# EAGLE library part USBLC6-2 (library Master)
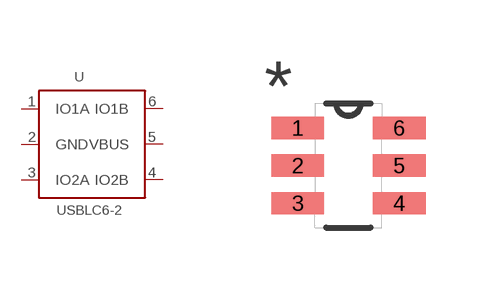
[diagram p15: symbol with the pads of SOT23-6; footprint SOT23-6]

Designator prefix -

## USBLC6-2SOT23-6  [SOT23-6]
1  IO1A
2  GND  pwr
3  IO2A
4  IO2B
5  VBUS  pwr
6  IO1B

## Footprint SOT23-6 (pad centres in mm)
smd 1.321 x 0.559: 1 -1.27,0.94; 2 -1.27,0; 3 -1.27,-0.94; 4 1.27,-0.94; 5 1.27,0; 6 1.27,0.94